# Altium schematic symbol library QFP50P.SchLib: 1 symbol
Pins are listed as number, name and electrical type; pins without a type are passive.

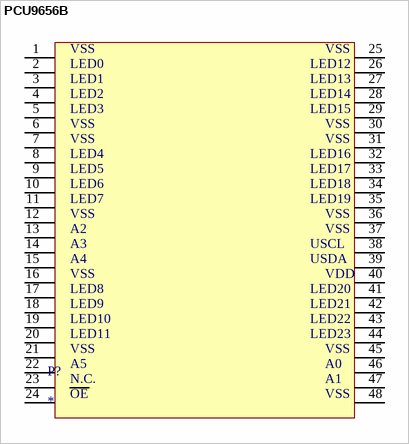
[diagram p0: symbol PCU9656B]

## PCU9656B
designator P?
footprint QFP50P900X900X160-48N
pins: 1, 2, 3, 4, 5, 6, 7, 8, 9, 10, 11, 12, 13, 14, 15, 16, 17, 18, 19, 20, 21, 22, 23, 24, 25, 26, 27, 28, 29, 30, 31, 32, 33, 34, 35, 36, 37, 38, 39, 40, 41, 42, 43, 44, 45, 46, 47, 48
text: VSS; LED0; LED12; LED1; LED13; LED2; LED14; LED3; LED15; LED4; LED16; LED5; LED17; LED6; LED18; LED7; LED19; A2; A3; USCL; A4; USDA; VDD; LED8; LED20; LED9; LED21; LED10; LED22; LED11; LED23; A5; A0; N.C.; A1; OE